# Altium footprint library W25Q80.PcbLib: 1 footprints
Each footprint in its own frame and in the unit in brackets; x right, y up, seen from the top. Pads: shape width x height; smd on the part's side, far side on the other; paste and mask are expansions set on the pad; w line width, h text height; cw(c..) or ccw(c..) is an arc to the next point about the centre after c.
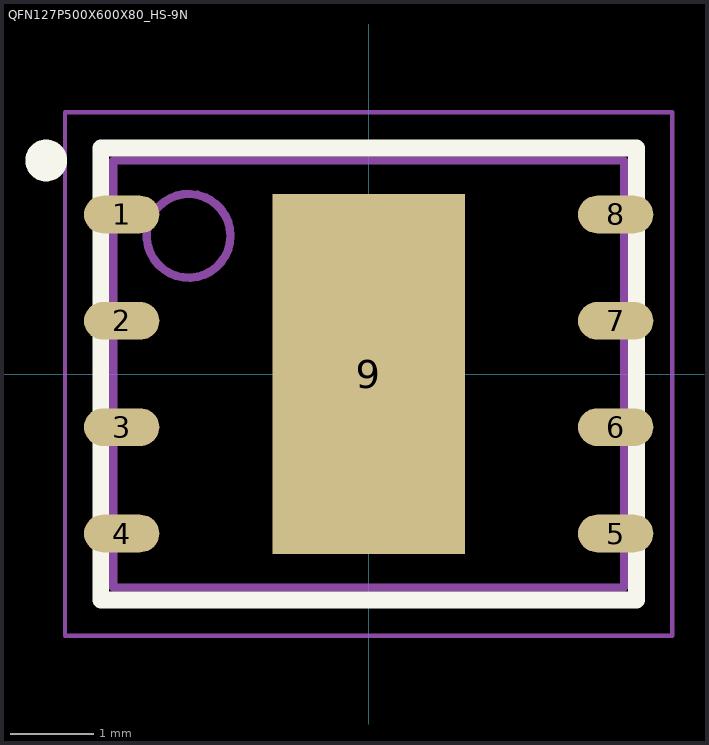
[diagram p0: the footprint, top view; thin cyan lines are the x and y axes]

## QFN127P500X600X80_HS-9N [mm] "QFN, 8-Leads, Body 5.00x6.00mm, Pitch 1.27mm, Thermal Pad 2.30x4.30mm, IPC Medium Density"
height 0.8
pads (9):
  oval 0.9x0.45 smd: 1(-2.95,1.905) 2(-2.95,0.635) 3(-2.95,-0.635) 4(-2.95,-1.905) 5(2.95,-1.905) 6(2.95,-0.635) 7(2.95,0.635) 8(2.95,1.905)
  rect 2.3x4.3 smd: 9(0,0)
Top Overlay:
  circle w0.25: c-3.85,2.55 r0.125
  lines w0.2: -0.01,-2.7 3.2,-2.7 3.2,-2.53 3.2,2.53 3.2,2.7 -0.01,2.7 ; 0.01,-2.7 -3.2,-2.7 -3.2,-2.53 -3.2,2.53 -3.2,2.7 0.01,2.7
Mechanical 13:
  circle w0.1: c-2.15,1.65 r0.5
  lines w0.1: -3.05,-2.55 -3.05,2.55 3.05,2.55 3.05,-2.55 -3.05,-2.55
Mechanical 15:
  lines w0.05: -3.625,-3.125 -3.625,3.125 3.625,3.125 3.625,-3.125 -3.625,-3.125
3D body: height 0.8, standoff 0.01, extent -3.048,-2.56 3.052,2.54